# EAGLE library part CLV4051 (library ardustat)
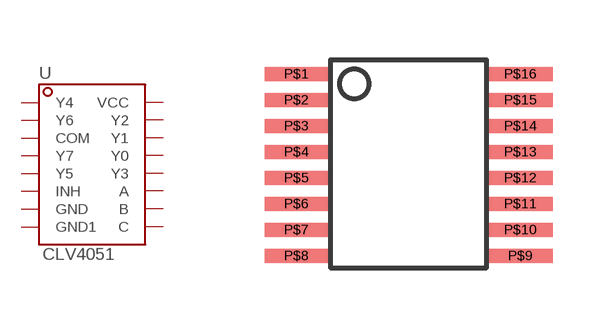
[diagram p12: symbol with the pads of CLV4051; footprint CLV4051]

Designator prefix -

## CLV4051  [CLV4051]
P$1  Y4
P$2  Y6
P$3  COM
P$4  Y7
P$5  Y5
P$6  INH
P$7  GND
P$8  GND1
P$9  C
P$10  B
P$11  A
P$12  Y3
P$13  Y0
P$14  Y1
P$15  Y2
P$16  VCC

## Footprint CLV4051 (pad centres in mm)
smd 1.6 x 0.35: P$1 -2.8,2.6; P$2 -2.8,1.95; P$3 -2.8,1.3; P$4 -2.8,0.65; P$5 -2.8,0; P$6 -2.8,-0.65; P$7 -2.8,-1.3; P$8 -2.8,-1.95; P$9 2.8,-1.95; P$10 2.8,-1.3; P$11 2.8,-0.65; P$12 2.8,0; P$13 2.8,0.65; P$14 2.8,1.3; P$15 2.8,1.95; P$16 2.8,2.6